# Altium schematic symbol library Compilation.SchLib: 307 symbols (part 1 of 4)
Pins are listed as number, name and electrical type; pins without a type are passive.

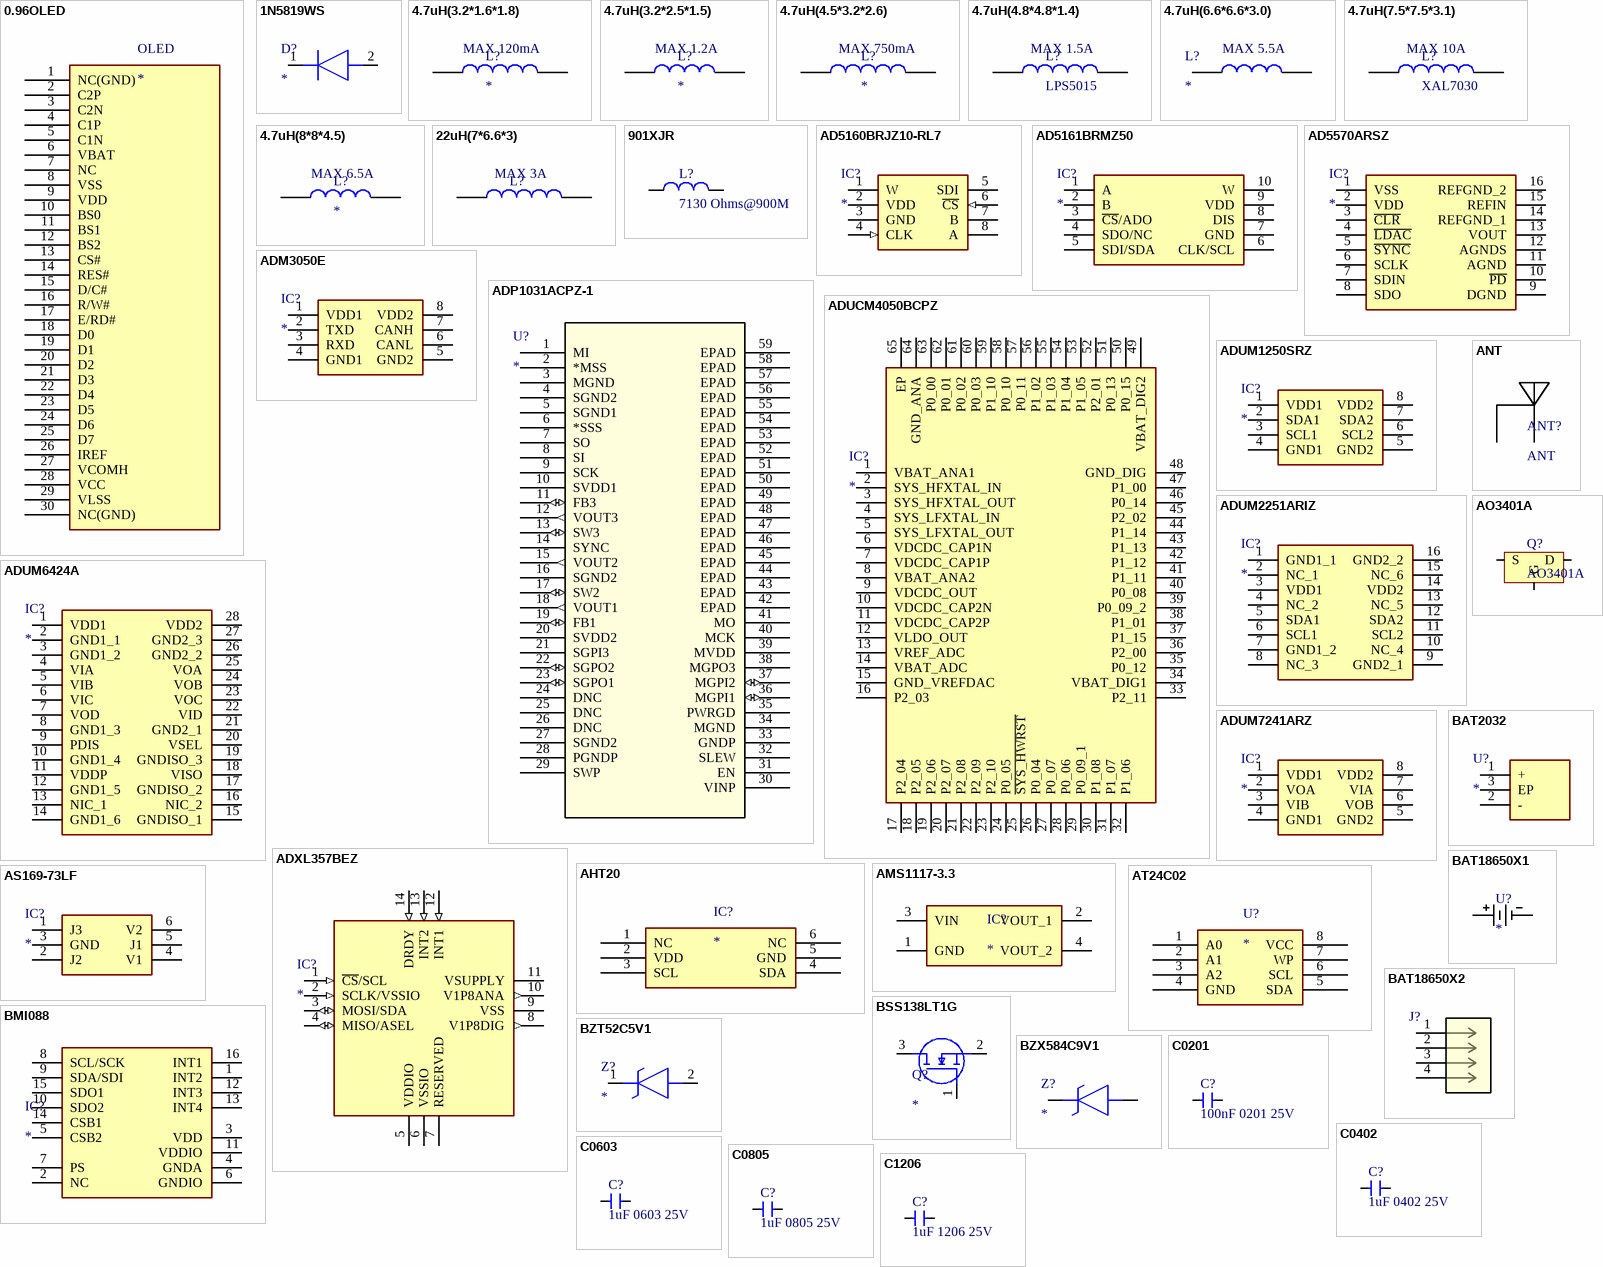
[diagram p0: symbols 0.96OLED to C1206]

## 0.96OLED
designator OLED
footprint 0.96OLED
pins: 1 NC(GND), 2 C2P, 3 C2N, 4 C1P, 5 C1N, 6 VBAT, 7 NC, 8 VSS, 9 VDD, 10 BS0, 11 BS1, 12 BS2, 13 CS#, 14 RES#, 15 D/C#, 16 R/W#, 17 E/RD#, 18 D0, 19 D1, 20 D2, 21 D3, 22 D4, 23 D5, 24 D6, 25 D7, 26 IREF, 27 VCOMH, 28 VCC, 29 VLSS, 30 NC(GND)

## 1N5819WS
designator D?
Diode; Manufacturer_Name: Toshiba; Manufacturer_Part_Number: CRH01; Datasheet Link: http://www.mouser.com/datasheet/2/408/CRH01_datasheet_en_20180404-1134686.pdf; Height: 1.08mm; Mouser Part Number: 757-CRH01; Mouser Price/Stock: https://www.mouser.co.uk/ProductDetail/Toshiba/CRH01?qs=6dm3P68XlMDjbLkiPZ97bg%3D%3D
footprint SOD-123
pins: 1 K, 2 A

## 4.7uH(3.2*1.6*1.8)
designator L?
Inductor
footprint 功率电感L(3.2*1.6*1.8)
pins: 1, 2
text: MAX 120mA

## 4.7uH(3.2*2.5*1.5)
designator L?
Inductor
footprint 功率电感L(3.2*2.5*1.5)
pins: 1, 2
text: MAX 1.2A

## 4.7uH(4.5*3.2*2.6)
designator L?
Inductor
footprint 功率电感L(4.5*3.2*2.6)
pins: 1, 2
text: MAX 750mA

## 4.7uH(4.8*4.8*1.4)
designator L?, comment LPS5015
Inductor
footprint LPS5015 (Low Profile Shielded Power Inductors)
pins: 1, 2
text: MAX 1.5A

## 4.7uH(6.6*6.6*3.0)
designator L?
Inductor; Manufacturer_Name: Panasonic; Manufacturer_Part_Number: ELL6SH4R7M; Datasheet Link: https://industrial.panasonic.com/cdbs/www-data/pdf/AGM0000/AGM0000CE9.pdf; Height: 3.3mm
footprint 功率电感L(6.6*6.6*3.0)
pins: 1, 2
text: MAX 5.5A

## 4.7uH(7.5*7.5*3.1)
designator L?, comment XAL7030
Inductor
footprint XAL7030 (High Current Shielded Power Inductors)
pins: 1, 2
text: MAX 10A

## 4.7uH(8*8*4.5)
designator L?
Inductor
footprint 功率电感L(8*8*4.5)
pins: 1, 2
text: MAX 6.5A

## 22uH(7*6.6*3)
designator L?
Inductor
footprint 功率电感L(7*6.6*3)
pins: 1, 2
text: MAX 3A

## 901XJR
designator L?, comment 7130 Ohms@900M
Inductor
footprint 0402DF (Ferrite Chip Inductors)
pins: 1, 2

## AD5160BRJZ10-RL7
designator IC?
Integrated Circuit; Manufacturer_Name: Analog Devices; Manufacturer_Part_Number: AD5160BRJZ10-RL7; Datasheet Link: http://www.analog.com/media/en/technical-documentation/data-sheets/AD5160.pdf; Height: 1.45mm; Mouser Part Number: 584-AD5160BRJZ10-R7; Mouser Price/Stock: https://www.mouser.co.uk/ProductDetail/Analog-Devices/AD5160BRJZ10-RL7?qs=NmRFExCfTkHhwD179eNY3Q%3D%3D; Arrow Part Number: AD5160BRJZ10-RL7; Arrow Price/Stock: https://www.arrow.com/en/products/ad5160brjz10-rl7/analog-devices?region=nac
footprint AD5160BRJZ10-RL7
pins: 1 W, 2 VDD (power), 3 GND (power), 4 CLK (in), 5 SDI, 6 ~{CS} (in), 7 B, 8 A

## AD5161BRMZ50
designator IC?
Integrated Circuit; Manufacturer_Name: Analog Devices; Manufacturer_Part_Number: AD5161BRMZ50; Datasheet Link: http://www.analog.com/media/en/technical-documentation/data-sheets/AD5161.pdf; Height: 1.1mm; Mouser Part Number: 584-AD5161BRMZ50; Mouser Price/Stock: https://www.mouser.co.uk/ProductDetail/Analog-Devices/AD5161BRMZ50?qs=NmRFExCfTkFqqhMssdVULQ%3D%3D; Arrow Part Number: AD5161BRMZ50; Arrow Price/Stock: https://www.arrow.com/en/products/ad5161brmz50/analog-devices
footprint AD5161BRMZ10
pins: 1 A, 2 B, 3 ~{CS}/ADO, 4 SDO/NC, 5 SDI/SDA, 6 CLK/SCL, 7 GND, 8 DIS, 9 VDD, 10 W

## AD5570ARSZ
designator IC?
Integrated Circuit; Manufacturer_Name: Analog Devices; Manufacturer_Part_Number: AD5570BRSZ; Datasheet Link: http://www.analog.com/media/en/technical-documentation/data-sheets/AD5570.pdf; Height: 2mm; Mouser Part Number: 584-AD5570BRSZ; Mouser Price/Stock: https://www.mouser.com/Search/Refine.aspx?Keyword=584-AD5570BRSZ; Arrow Part Number: AD5570BRSZ; Arrow Price/Stock: https://www.arrow.com/en/products/ad5570brsz/analog-devices
footprint AD5570ARSZ
pins: 1 VSS, 2 VDD, 3 ~{CLR}, 4 ~{LDAC}, 5 ~{SYNC}, 6 SCLK, 7 SDIN, 8 SDO, 9 DGND, 10 ~{PD}, 11 AGND, 12 AGNDS, 13 VOUT, 14 REFGND_1, 15 REFIN, 16 REFGND_2

## ADM3050E
designator IC?
Interface-CAN; Manufacturer_Name: Analog Devices; Manufacturer_Part_Number: ADM3050EBRIZ; Datasheet Link: https://www.mouser.com/datasheet/2/609/ADM3050E-EP-1542022.pdf; Height: 2.65mm; Mouser Part Number: 584-ADM3050EBRIZ; Mouser Price/Stock: https://www.mouser.co.uk/ProductDetail/Analog-Devices/ADM3050EBRIZ?qs=P1JMDcb91o7QWLbXtXYo%2Fw%3D%3D; Arrow Part Number: ADM3050EBRIZ; Arrow Price/Stock: https://www.arrow.com/en/products/adm3050ebriz/analog-devices?region=nac
footprint ADM3050E (CAN Transceiver)
pins: 1 VDD1, 2 TXD, 3 RXD, 4 GND1, 5 GND2, 6 CANL, 7 CANH, 8 VDD2

## ADP1031ACPZ-1
designator U?
Integrated Circuit; Mfr_Name: Analog Devices Inc; Manufacturer_Part_Number: ADP1031ACPZ-2-R7; Copyright: Copyright (C) 2022 Ultra Librarian. All rights reserved.; RefDes: RefDes; Type: DEV
footprint ADP1031ACPZ-1
pins: 1 MI, 2 *MSS, 3 MGND, 4 SGND2, 5 SGND1, 6 *SSS, 7 SO, 8 SI, 9 SCK, 10 SVDD1 (power), 11 FB3 (io), 12 VOUT3 (out), 13 SW3 (io), 14 SYNC, 15 VOUT2 (out), 16 SGND2, 17 SW2 (io), 18 VOUT1 (out), 19 FB1 (io), 20 SVDD2 (power), 21 SGPI3, 22 SGPO2 (io), 23 SGPO1 (io), 24 DNC, 25 DNC, 26 DNC, 27 SGND2, 28 PGNDP, 29 SWP, 30 VINP, 31 EN, 32 SLEW, 33 GNDP, 34 MGND, 35 PWRGD, 36 MGPI1 (io), 37 MGPI2 (io), 38 MGPO3, 39 MVDD (power), 40 MCK, 41 MO, 42 EPAD, 43 EPAD, 44 EPAD, 45 EPAD, 46 EPAD, 47 EPAD, 48 EPAD, 49 EPAD, 50 EPAD, 51 EPAD, 52 EPAD, 53 EPAD, 54 EPAD, 55 EPAD, 56 EPAD, 57 EPAD, 58 EPAD, 59 EPAD

## ADUCM4050BCPZ
designator IC?
Integrated Circuit; Manufacturer_Name: Analog Devices; Manufacturer_Part_Number: ADUCM4050BCPZ; Datasheet Link: https://www.analog.com/media/en/technical-documentation/data-sheets/ADuCM4050.pdf; Height: 0.8mm; Mouser Part Number: 584-ADUCM4050BCPZ; Mouser Price/Stock: https://www.mouser.co.uk/ProductDetail/Analog-Devices/ADUCM4050BCPZ?qs=w%2Fv1CP2dgqq8heZVgOrWIQ%3D%3D
footprint ADUCM4050BCPZ
pins: 1 VBAT_ANA1, 2 SYS_HFXTAL_IN, 3 SYS_HFXTAL_OUT, 4 SYS_LFXTAL_IN, 5 SYS_LFXTAL_OUT, 6 VDCDC_CAP1N, 7 VDCDC_CAP1P, 8 VBAT_ANA2, 9 VDCDC_OUT, 10 VDCDC_CAP2N, 11 VDCDC_CAP2P, 12 VLDO_OUT, 13 VREF_ADC, 14 VBAT_ADC, 15 GND_VREFDAC, 16 P2_03, 17 P2_04, 18 P2_05, 19 P2_06, 20 P2_07, 21 P2_08, 22 P2_09, 23 P2_10, 24 P0_05, 25 ~{SYS_HWRST}, 26 P0_04, 27 P0_07, 28 P0_06, 29 P0_09_1, 30 P1_08, 31 P1_07, 32 P1_06, 33 P2_11, 34 VBAT_DIG1, 35 P0_12, 36 P2_00, 37 P1_15, 38 P1_01, 39 P0_09_2, 40 P0_08, 41 P1_11, 42 P1_12, 43 P1_13, 44 P1_14, 45 P2_02, 46 P0_14, 47 P1_00, 48 GND_DIG, 49 VBAT_DIG2, 50 P0_15, 51 P0_13, 52 P2_01, 53 P1_05, 54 P1_04, 55 P1_03, 56 P1_02, 57 P0_11, 58 P0_10, 59 P1_10, 60 P0_03, 61 P0_02, 62 P0_01, 63 P0_00, 64 GND_ANA, 65 EP

## ADUM1250SRZ
designator IC?
Isolator-IIC; Manufacturer_Name: Analog Devices; Manufacturer_Part_Number: ADUM1250SRZ-RL7; Datasheet Link: http://componentsearchengine.com/Datasheets/1/ADUM1250SRZ-RL7.pdf; Height: 1.75mm; Mouser Part Number: 584-ADUM1250SRZ-R7; Mouser Price/Stock: https://www.mouser.co.uk/ProductDetail/Analog-Devices/ADUM1250SRZ-RL7?qs=WIvQP4zGangOSGljbKVG0A%3D%3D; Arrow Part Number: ADUM1250SRZ-RL7; Arrow Price/Stock: https://www.arrow.com/en/products/adum1250srz-rl7/maxim-integrated?region=nac
footprint SOIC-8
pins: 1 VDD1, 2 SDA1, 3 SCL1, 4 GND1, 5 GND2, 6 SCL2, 7 SDA2, 8 VDD2

## ADUM2251ARIZ
designator IC?
Isolator-IIC; Manufacturer_Name: Analog Devices; Manufacturer_Part_Number: ADUM2251ARIZ; Datasheet Link: https://www.analog.com/media/en/technical-documentation/data-sheets/ADuM2250_ADuM2251.pdf; Height: 2.64mm; Mouser Part Number: 584-ADUM2251ARIZ; Mouser Price/Stock: https://www.mouser.co.uk/ProductDetail/Analog-Devices/ADUM2251ARIZ/?qs=WIvQP4zGaninyQ3UoGTqQA%3D%3D; Arrow Part Number: ADUM2251ARIZ; Arrow Price/Stock: https://www.arrow.com/en/products/adum2251ariz/analog-devices
footprint ADUM2251ARIZ
pins: 1 GND1_1, 2 NC_1, 3 VDD1, 4 NC_2, 5 SDA1, 6 SCL1, 7 GND1_2, 8 NC_3, 9 GND2_1, 10 NC_4, 11 SCL2, 12 SDA2, 13 NC_5, 14 VDD2, 15 NC_6, 16 GND2_2

## ADUM6424A
designator IC?
Isolator-Digital
footprint ADUM6424A
pins: 1 VDD1, 2 GND1_1, 3 GND1_2, 4 VIA, 5 VIB, 6 VIC, 7 VOD, 8 GND1_3, 9 PDIS, 10 GND1_4, 11 VDDP, 12 GND1_5, 13 NIC_1, 14 GND1_6, 15 GNDISO_1, 16 NIC_2, 17 GNDISO_2, 18 VISO, 19 GNDISO_3, 20 VSEL, 21 GND2_1, 22 VID, 23 VOC, 24 VOB, 25 VOA, 26 GND2_2, 27 GND2_3, 28 VDD2

## ADUM7241ARZ
designator IC?
Isolator-Digital; Manufacturer_Name: Analog Devices; Manufacturer_Part_Number: ADUM7241ARZ; Datasheet Link: http://www.analog.com/media/en/technical-documentation/data-sheets/ADuM7240_7241.pdf; Height: 1.75mm; Mouser Part Number: 584-ADUM7241ARZ; Mouser Price/Stock: https://www.mouser.co.uk/ProductDetail/Analog-Devices/ADUM7241ARZ?qs=WIvQP4zGani3j2jCzKCQkw%3D%3D; Arrow Part Number: ADUM7241ARZ; Arrow Price/Stock: https://www.arrow.com/en/products/adum7241arz/analog-devices
footprint SOIC-8
pins: 1 VDD1, 2 VOA, 3 VIB, 4 GND1, 5 GND2, 6 VOB, 7 VIA, 8 VDD2

## ADXL357BEZ
designator IC?
MEMS; Manufacturer_Name: Analog Devices; Manufacturer_Part_Number: ADXL357BEZ; Datasheet Link: https://componentsearchengine.com/Datasheets/2/ADXL357BEZ.pdf; Mouser Part Number: 584-ADXL357BEZ; Mouser Price/Stock: https://www.mouser.co.uk/ProductDetail/Analog-Devices/ADXL357BEZ?qs=JxTdDJPFbyK%252BcMwBtm6iZg%3D%3D; Arrow Part Number: ADXL357BEZ; Arrow Price/Stock: https://www.arrow.com/en/products/adxl357bez/analog-devices?region=nac
footprint ADXL357BEZ
pins: 1 ~{CS}/SCL (in), 2 SCLK/VSSIO (in), 3 MOSI/SDA (io), 4 MISO/ASEL (io), 5 VDDIO (power), 6 VSSIO (power), 7 RESERVED (power), 8 V1P8DIG (out), 9 VSS (power), 10 V1P8ANA (out), 11 VSUPPLY (power), 12 INT1 (in), 13 INT2 (in), 14 DRDY (in)

## AHT20
designator IC?
MEMS
footprint AHT20
pins: 1 NC, 2 VDD, 3 SCL, 4 SDA, 5 GND, 6 NC

## AMS1117-3.3
designator IC?
Power Manager; Manufacturer_Name: Advanced Monolithic Systems; Manufacturer_Part_Number: AMS1117-3.3; Datasheet Link: http://www.advanced-monolithic.com/pdf/ds1117.pdf; Height: 1.8mm
footprint AMS1117-3.3
pins: 1 GND, 2 VOUT_1, 3 VIN, 4 VOUT_2

## ANT
designator ANT?
PCB板载天线; 版权归属: 源创客; BOM名称: PCB板载天线; 学习资源: www.ooocke.com
footprint ANT2.4G-IFA (IFA for WIFI/Bluetooth)
pins: 1, 2

## AO3401A
designator Q?
MOSFET P-ch
footprint SOT23-3
pins: 1 G, 2 S, 3 D

## AS169-73LF
designator IC?
RF Switch; Manufacturer_Name: Texas Instruments; Manufacturer_Part_Number: LP5907MFX-3.3/NOPB; Datasheet Link: https://datasheet.datasheetarchive.com/originals/distributors/Datasheets-SFU2/DSASFU100037200.pdf; Height: 1.45mm; Mouser Part Number: 595-LP5907MFX-3.3NPB; Mouser Price/Stock: https://www.mouser.co.uk/ProductDetail/Texas-Instruments/LP5907MFX-33-NOPB?qs=biyDIajrTn6NhrJCoL%2FdSQ%3D%3D; Arrow Part Number: LP5907MFX-3.3/NOPB; Arrow Price/Stock: https://www.arrow.com/en/products/lp5907mfx-3.3nopb/texas-instruments?region=nac
footprint SOT23-6
pins: 1 J3, 2 J2, 3 GND, 4 V1, 5 J1, 6 V2

## AT24C02
designator U?
Memory
footprint SOIC-8
pins: 1 A0, 2 A1, 3 A2, 4 GND, 5 SDA, 6 SCL, 7 WP, 8 VCC

## BAT2032
designator U?
Connector; Manufacturer_Name: MPD (Memory Protection Devices); Manufacturer_Part_Number: BU2032SM-JJ-GTR; Datasheet Link: https://datasheet.datasheetarchive.com/originals/dk/DKDS-14/278680.pdf; Height: 5.8mm
footprint BAT2032
pins: 1 +, 2 -, 3 EP

## BAT18650X1
designator U?
Battery
footprint BAT18650X1
pins: 1, 2

## BAT18650X2
designator J?
Battery; Mfr_Name: Keystone Electronics; Manufacturer_Part_Number: 1048; Copyright: Copyright (C) 2023 Ultra Librarian. All rights reserved.; RefDes: RefDes; Type: DEV
footprint BAT18650X2
pins: 1, 2, 3, 4

## BMI088
designator IC?
MEMS; Manufacturer_Name: Bosch Sensortec; Manufacturer_Part_Number: BMI088; Datasheet Link: https://datasheet.datasheetarchive.com/originals/distributors/Datasheets_SAMA/994c3bf88e91a9e9fead6a819d348e4d.pdf; Height: 1.45mm; Mouser Part Number: 262-BMI088; Mouser Price/Stock: https://www.mouser.co.uk/ProductDetail/Bosch-Sensortec/BMI088?qs=f9yNj16SXrIMFspTV6RB6Q%3D%3D; Arrow Part Number: BMI088; Arrow Price/Stock: https://www.arrow.com/en/products/bmi088/bosch
footprint BMI088
pins: 1 INT2, 2 NC, 3 VDD, 4 GNDA, 5 CSB2, 6 GNDIO, 7 PS, 8 SCL/SCK, 9 SDA/SDI, 10 SDO2, 11 VDDIO, 12 INT3, 13 INT4, 14 CSB1, 15 SDO1, 16 INT1

## BSS138LT1G
designator Q?
MOSFET(N-Channel); Manufacturer_Name: ON Semiconductor; Manufacturer_Part_Number: BSS138LT1G; Datasheet Link: http://www.onsemi.com/pub/Collateral/BSS138LT1-D.PDF; Height: 1.11mm; Mouser Part Number: 863-BSS138LT1G; Mouser Price/Stock: https://www.mouser.co.uk/ProductDetail/onsemi/BSS138LT1G?qs=vNc2DXHODiKPZ2y3rQhTYQ%3D%3D; Arrow Part Number: BSS138LT1G; Arrow Price/Stock: https://www.arrow.com/en/products/bss138lt1g/on-semiconductor?region=nac
footprint BSS138LT1G
pins: 1 G, 2 S, 3 D

## BZT52C5V1
designator Z?
Diode; Manufacturer_Name: Nexperia; Manufacturer_Part_Number: BZT52-C5V6J; Datasheet Link: https://assets.nexperia.com/documents/data-sheet/BZT52_SER.pdf; Height: 1.3mm; Mouser Part Number: N/A; Mouser Price/Stock: https://www.mouser.com/Search/Refine.aspx?Keyword=N%2FA; Arrow Part Number: BZT52-C5V6J; Arrow Price/Stock: https://www.arrow.com/en/products/bzt52-c5v6j/nexperia?region=nac
footprint BZT52C5V1
pins: 1 K, 2 A

## BZX584C9V1
designator Z?
Diode; Manufacturer_Name: Vishay; Manufacturer_Part_Number: BZX584C9V1-G3-08; Datasheet Link: https://www.mouser.co.uk/datasheet/2/427/bzx584c-series-1767863.pdf; Height: 0.75mm; Mouser Part Number: 78-BZX584C9V1-G3-08; Mouser Price/Stock: https://www.mouser.co.uk/ProductDetail/Vishay-Semiconductors/BZX584C9V1-G3-08?qs=OTrKUuiFdkYjt7ytUwYykQ%3D%3D
footprint BZX584C9V1
pins: 1, 2

## C0201
designator C?, comment 100nF 0201 25V
Capacitor
footprint C0201 (英制0201封装 电容)
pins: 1, 2

## C0402
designator C?, comment 1uF 0402 25V
Capacitor
footprint C0402
pins: 1, 2

## C0603
designator C?, comment 1uF 0603 25V
Capacitor; Manufacturer_Name: Walsin Technology Corporation; Manufacturer_Part_Number: 0603N470J500CT; Datasheet Link: https://datasheet.datasheetarchive.com/originals/distributors/DKDS41/DSANUWW0027552.pdf; Height: 0.87mm; Mouser Part Number: 791-0603N470J500CT; Mouser Price/Stock: https://www.mouser.co.uk/ProductDetail/Walsin/0603N470J500CT?qs=ZrPdAQfJ6DOWJe9N0xQVbw%3D%3D
footprint C0603
pins: 1, 2

## C0805
designator C?, comment 1uF 0805 25V
Capacitor; Manufacturer_Name: Walsin Technology Corporation; Manufacturer_Part_Number: 0805B104K500CT; Datasheet Link: https://datasheet.datasheetarchive.com/originals/distributors/DKDS41/DSANUWW0027552.pdf; Height: 0.9mm; Mouser Part Number: 791-0805B104K500CT; Mouser Price/Stock: https://www.mouser.co.uk/ProductDetail/Walsin/0805B104K500CT?qs=fIkAfuXiAQIRyZemBo9ukA%3D%3D; Arrow Part Number: 0805B104K500CT; Arrow Price/Stock: https://www.arrow.com/en/products/0805b104k500ct/walsin-technology
footprint C0805
pins: 1, 2

## C1206
designator C?, comment 1uF 1206 25V
Capacitor; Manufacturer_Name: Kemet; Manufacturer_Part_Number: C1206C124KARACAUTO; Datasheet Link: https://mouser.componentsearchengine.com/Datasheets/1/C1206C124KARACAUTO.pdf; Height: 1.4mm; Mouser Part Number: 80-C1206C124KARAUTO; Mouser Price/Stock: https://www.mouser.co.uk/ProductDetail/KEMET/C1206C124KARACAUTO?qs=wUXugUrL1qz5WicbpL7E5w%3D%3D; Arrow Part Number: C1206C124KARACAUTO; Arrow Price/Stock: https://www.arrow.com/en/products/c1206c124karacauto/kemet-corporation
footprint C1206
pins: 1, 2

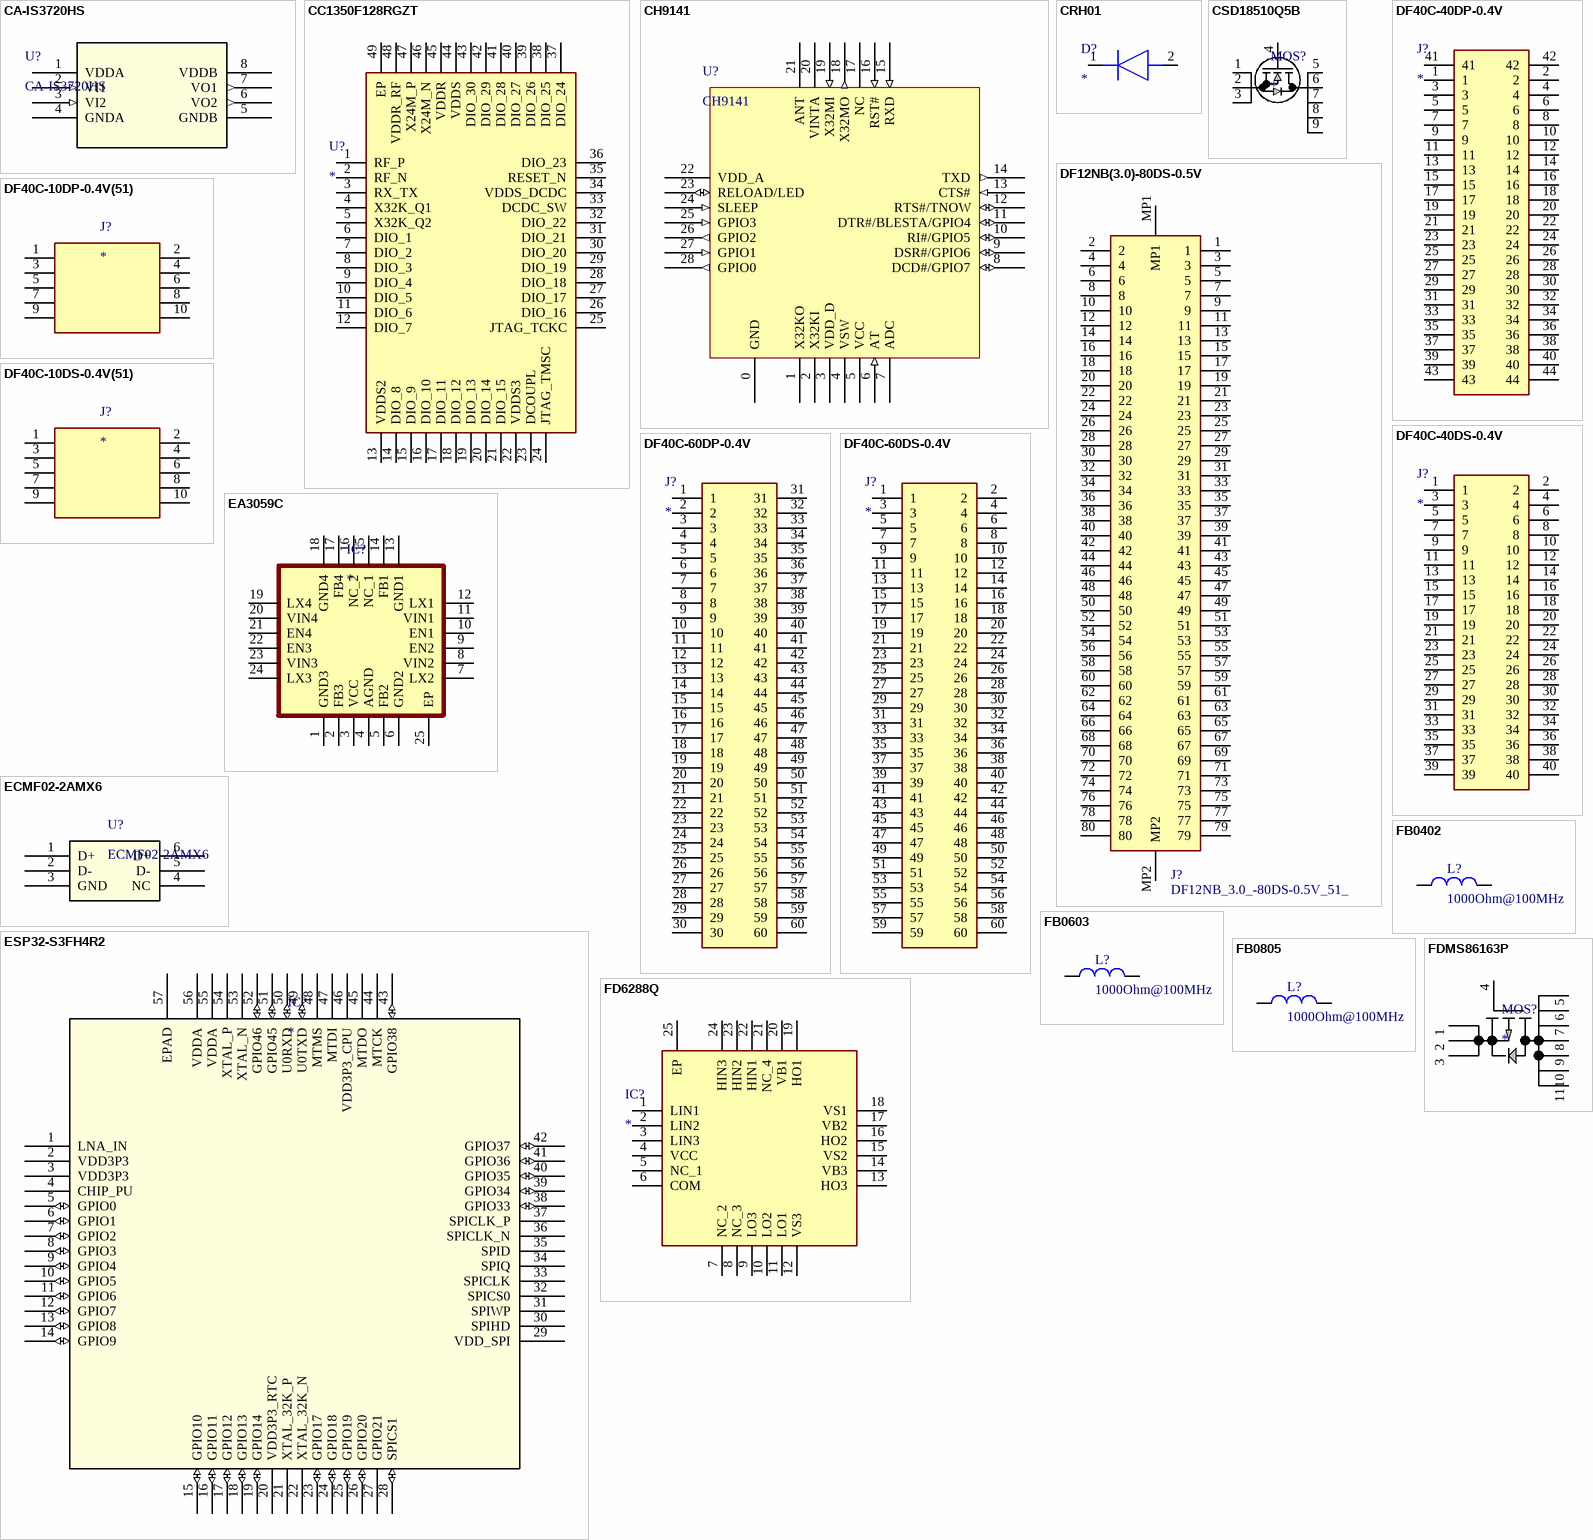
[diagram p1: symbols CA-IS3720HS to FDMS86163P]

## CA-IS3720HS
designator U?
Isolator; Mfr_Name: Chipanalog; Type: DEV; Copyright: Copyright (C) 2023 Ultra Librarian. All rights reserved.; Manufacturer_Part_Number: CA-IS3720HS; RefDes: RefDes
footprint SOIC-8
pins: 1 VDDA (power), 2 VI1 (in), 3 VI2 (in), 4 GNDA (power), 5 GNDB (power), 6 VO2 (out), 7 VO1 (out), 8 VDDB (power)

## CC1350F128RGZT
designator U?
MCU; Manufacturer_Name: Texas Instruments; Manufacturer_Part_Number: CC1350F128RGZT; Datasheet Link: http://www.ti.com/lit/gpn/CC1350; Height: 1mm; Mouser Part Number: 595-CC1350F128RGZT; Mouser Price/Stock: https://www.mouser.co.uk/ProductDetail/Texas-Instruments/CC1350F128RGZT?qs=SMCV84mnLhmXB2ndd3%2FQ6w%3D%3D; Arrow Part Number: CC1350F128RGZT; Arrow Price/Stock: https://www.arrow.com/en/products/cc1350f128rgzt/texas-instruments?region=nac
footprint UFQFPN48
pins: 1 RF_P, 2 RF_N, 3 RX_TX, 4 X32K_Q1, 5 X32K_Q2, 6 DIO_1, 7 DIO_2, 8 DIO_3, 9 DIO_4, 10 DIO_5, 11 DIO_6, 12 DIO_7, 13 VDDS2, 14 DIO_8, 15 DIO_9, 16 DIO_10, 17 DIO_11, 18 DIO_12, 19 DIO_13, 20 DIO_14, 21 DIO_15, 22 VDDS3, 23 DCOUPL, 24 JTAG_TMSC, 25 JTAG_TCKC, 26 DIO_16, 27 DIO_17, 28 DIO_18, 29 DIO_19, 30 DIO_20, 31 DIO_21, 32 DIO_22, 33 DCDC_SW, 34 VDDS_DCDC, 35 RESET_N, 36 DIO_23, 37 DIO_24, 38 DIO_25, 39 DIO_26, 40 DIO_27, 41 DIO_28, 42 DIO_29, 43 DIO_30, 44 VDDS, 45 VDDR, 46 X24M_N, 47 X24M_P, 48 VDDR_RF, 49 EP

## CH9141
designator U?
Bluetooth-LowEnergy & UART Mutual Transport
footprint QFN28-4X4
pins: 0 GND (power), 1 X32KO, 2 X32KI, 3 VDD_D (power), 4 VSW (power), 5 VCC (power), 6 AT (in), 7 ADC, 8 DCD#/GPIO7 (io), 9 DSR#/GPIO6 (io), 10 RI#/GPIO5 (io), 11 DTR#/BLESTA/GPIO4 (io), 12 RTS#/TNOW (io), 13 CTS# (in), 14 TXD (out), 15 RXD (in), 16 RST# (in), 17 NC (hiz), 18 X32MO (out), 19 X32MI (in), 20 VINTA (power), 21 ANT, 22 VDD_A (power), 23 RELOAD/LED (io), 24 SLEEP (in), 25 GPIO3 (in), 26 GPIO2 (out), 27 GPIO1 (in), 28 GPIO0 (out)

## CRH01
designator D?
Diode; Manufacturer_Name: Toshiba; Manufacturer_Part_Number: CRH01; Datasheet Link: http://www.mouser.com/datasheet/2/408/CRH01_datasheet_en_20180404-1134686.pdf; Height: 1.08mm; Mouser Part Number: 757-CRH01; Mouser Price/Stock: https://www.mouser.co.uk/ProductDetail/Toshiba/CRH01?qs=6dm3P68XlMDjbLkiPZ97bg%3D%3D
footprint CRH01
footprint CRH01
pins: 1 K, 2 A

## CSD18510Q5B
designator MOS?
MOSFET(N-Channel); Manufacturer_Name: Texas Instruments; Manufacturer_Part_Number: CSD18510Q5BT; Datasheet Link: http://www.ti.com/lit/ds/symlink/csd18510q5b.pdf; Mouser Part Number: 595-CSD18510Q5BT; Mouser Price/Stock: https://www.mouser.co.uk/ProductDetail/Texas-Instruments/CSD18510Q5BT?qs=u4fy%2FsgLU9PeKSF3sD%2F9mw%3D%3D; Arrow Part Number: CSD18510Q5BT; Arrow Price/Stock: https://www.arrow.com/en/products/csd18510q5bt/texas-instruments?region=nac
footprint CSD18510Q5B (MOSFET N-ch)
pins: 1 S, 2 S, 3 S, 4 G, 5 D, 6 D, 7 D, 8 D, 9 D

## DF12NB(3.0)-80DS-0.5V
designator J?, comment DF12NB_3.0_-80DS-0.5V_51_
Connector; Manufacturer_Name: Hirose; Manufacturer_Part_Number: DF12NB(3.0)-80DS-0.5V(51); Geometry.Height: 2.2mm; Mouser Part Number: 798-DF12NB3080DS0551; Mouser Price/Stock: https://www.mouser.co.uk/ProductDetail/Hirose-Connector/DF12NB3.0-80DS-0.5V51?qs=DPoM0jnrROXDCz7SysT8cw%3D%3D; Arrow Part Number: *; Arrow Price/Stock: *; Datasheet Link: https://www.mouser.de/datasheet/2/185/ed_DF12N_20200826-1915117.pdf
footprint DF12NB(3.0)-80DS-0.5V
pins: 1, 2, 3, 4, 5, 6, 7, 8, 9, 10, 11, 12, 13, 14, 15, 16, 17, 18, 19, 20, 21, 22, 23, 24, 25, 26, 27, 28, 29, 30, 31, 32, 33, 34, 35, 36, 37, 38, 39, 40, 41, 42, 43, 44, 45, 46, 47, 48, 49, 50, 51, 52, 53, 54, 55, 56, 57, 58, 59, 60, 61, 62, 63, 64, 65, 66, 67, 68, 69, 70, 71, 72, 73, 74, 75, 76, 77, 78, 79, 80, MP1, MP2

## DF40C-10DP-0.4V(51)
designator J?
Connector
footprint DF40C-10DP-0.4V(51) (Footprint not found)
pins: 1, 2, 3, 4, 5, 6, 7, 8, 9, 10

## DF40C-10DS-0.4V(51)
designator J?
Connector
footprint DF40C-10DS-0.4V(51) (Footprint not found)
pins: 1, 2, 3, 4, 5, 6, 7, 8, 9, 10

## DF40C-40DP-0.4V
designator J?
Connector; Manufacturer_Name: Hirose; Manufacturer_Part_Number: DF40C-40DP-0.4V(51); Datasheet Link: https://datasheet.datasheetarchive.com/originals/distributors/SFDatasheet-7/sf-000141247.pdf; Height: 1mm; Mouser Part Number: 798-DF40C40DP0.4V51; Mouser Price/Stock: https://www.mouser.co.uk/ProductDetail/Hirose-Connector/DF40C-40DP-0.4V51?qs=eDUdFcBPps3ody6AX5VRNA%3D%3D
footprint DF40C-40DP-0.4V
pins: 1, 2, 3, 4, 5, 6, 7, 8, 9, 10, 11, 12, 13, 14, 15, 16, 17, 18, 19, 20, 21, 22, 23, 24, 25, 26, 27, 28, 29, 30, 31, 32, 33, 34, 35, 36, 37, 38, 39, 40, 41, 42, 43, 44

## DF40C-40DS-0.4V
designator J?
Connector; Manufacturer_Name: Hirose; Manufacturer_Part_Number: DF40C(2.0)-40DS-0.4V(51); Datasheet Link: https://datasheet.datasheetarchive.com/originals/distributors/SFDatasheet-7/sf-000141247.pdf; Height: 2.1mm; Mouser Part Number: 798-DF40C2040DS04V51; Mouser Price/Stock: https://www.mouser.co.uk/ProductDetail/Hirose-Connector/DF40C2.0-40DS-0.4V51?qs=tTj%252BmQ3KZwZ5XvyhQkwYtw%3D%3D; Arrow Part Number: DF40C(2.0)-40DS-0.4V(51); Arrow Price/Stock: https://www.arrow.com/en/products/df40c-2.0-40ds-0.4v-51/hirose-electric
footprint DF40C-40DS-0.4V
pins: 1, 2, 3, 4, 5, 6, 7, 8, 9, 10, 11, 12, 13, 14, 15, 16, 17, 18, 19, 20, 21, 22, 23, 24, 25, 26, 27, 28, 29, 30, 31, 32, 33, 34, 35, 36, 37, 38, 39, 40

## DF40C-60DP-0.4V
designator J?
Connector; Manufacturer_Name: Hirose; Manufacturer_Part_Number: DF40C-60DP-0.4V(51); Datasheet Link: https://datasheet.datasheetarchive.com/originals/distributors/Datasheets-DGA17/1059795.pdf; Mouser Part Number: 798-DF40C60DP0.4V51; Mouser Price/Stock: https://www.mouser.co.uk/ProductDetail/Hirose-Connector/DF40C-60DP-0.4V51?qs=eDUdFcBPps0%252B%252BrqDQtiLyw%3D%3D; Arrow Part Number: DF40C-60DP-0.4V(51); Arrow Price/Stock: https://www.arrow.com/en/products/df40c-60dp-0.4v-51/hirose-electric?region=nac
footprint DF40C-60DP-0.4V
pins: 1, 2, 3, 4, 5, 6, 7, 8, 9, 10, 11, 12, 13, 14, 15, 16, 17, 18, 19, 20, 21, 22, 23, 24, 25, 26, 27, 28, 29, 30, 31, 32, 33, 34, 35, 36, 37, 38, 39, 40, 41, 42, 43, 44, 45, 46, 47, 48, 49, 50, 51, 52, 53, 54, 55, 56, 57, 58, 59, 60

## DF40C-60DS-0.4V
designator J?
Connector; Manufacturer_Name: Hirose; Manufacturer_Part_Number: DF40C-60DS-0.4V(51); Datasheet Link: https://www.mouser.com/datasheet/2/185/DF40_catalog-939157.pdf; Height: 1.6mm; Mouser Part Number: 798-DF40C60DS0.4V51; Mouser Price/Stock: https://www.mouser.co.uk/ProductDetail/Hirose-Connector/DF40C-60DS-0.4V51?qs=eDUdFcBPps2B0AxWfy4Tzg%3D%3D; Arrow Part Number: DF40C-60DS-0.4V(51); Arrow Price/Stock: https://www.arrow.com/en/products/df40c-60ds-0.4v-51/hirose-electric?region=nac
footprint DF40C-60DS-0.4V
pins: 1, 2, 3, 4, 5, 6, 7, 8, 9, 10, 11, 12, 13, 14, 15, 16, 17, 18, 19, 20, 21, 22, 23, 24, 25, 26, 27, 28, 29, 30, 31, 32, 33, 34, 35, 36, 37, 38, 39, 40, 41, 42, 43, 44, 45, 46, 47, 48, 49, 50, 51, 52, 53, 54, 55, 56, 57, 58, 59, 60

## EA3059C
designator IC?
Power Manager; Manufacturer_Name: Ever Analog; Manufacturer_Part_Number: EA3059QDR; Datasheet Link: https://datasheet.lcsc.com/lcsc/1811151429_Everanalog-IC-design-EA3059_C111586.pdf; Height: 1mm
footprint EA3059C
pins: 1 GND3, 2 FB3, 3 VCC, 4 AGND, 5 FB2, 6 GND2, 7 LX2, 8 VIN2, 9 EN2, 10 EN1, 11 VIN1, 12 LX1, 13 GND1, 14 FB1, 15 NC_1, 16 NC_2, 17 FB4, 18 GND4, 19 LX4, 20 VIN4, 21 EN4, 22 EN3, 23 VIN3, 24 LX3, 25 EP

## ECMF02-2AMX6
designator U?
No Description Available; Mfr_Name: STMicroelectronics; Copyright: Copyright (C) 2023 Ultra Librarian. All rights reserved.; Manufacturer_Part_Number: ECMF02-2AMX6; RefDes: RefDes; Type: DEV
footprint QFN3x2-6L
pins: 1 D+, 2 D-, 3 GND (power), 4 NC, 5 D-, 6 D+

## ESP32-S3FH4R2
designator IC?
MCU; Mfr_Name: Espressif Systems; RefDes: RefDes; Type: Type
footprint QFN56-7X7
pins: 1 LNA_IN, 2 VDD3P3 (power), 3 VDD3P3 (power), 4 CHIP_PU (power), 5 GPIO0 (io), 6 GPIO1 (io), 7 GPIO2 (io), 8 GPIO3 (io), 9 GPIO4 (io), 10 GPIO5 (io), 11 GPIO6 (io), 12 GPIO7 (io), 13 GPIO8 (io), 14 GPIO9 (io), 15 GPIO10 (io), 16 GPIO11 (io), 17 GPIO12 (io), 18 GPIO13 (io), 19 GPIO14 (io), 20 VDD3P3_RTC (power), 21 XTAL_32K_P, 22 XTAL_32K_N, 23 GPIO17 (io), 24 GPIO18 (io), 25 GPIO19 (io), 26 GPIO20 (io), 27 GPIO21 (power), 28 SPICS1 (io), 29 VDD_SPI, 30 SPIHD (power), 31 SPIWP, 32 SPICS0, 33 SPICLK, 34 SPIQ, 35 SPID, 36 SPICLK_N, 37 SPICLK_P, 38 GPIO33 (io), 39 GPIO34 (io), 40 GPIO35 (io), 41 GPIO36 (io), 42 GPIO37 (io), 43 GPIO38 (io), 44 MTCK, 45 MTDO (power), 46 VDD3P3_CPU, 47 MTDI, 48 MTMS, 49 U0TXD (io), 50 U0RXD (io), 51 GPIO45 (io), 52 GPIO46 (io), 53 XTAL_N, 54 XTAL_P (power), 55 VDDA, 56 VDDA, 57 EPAD

## FB0402
designator L?, comment 1000Ohm@100MHz
Inductor
footprint FB0402
pins: 1, 2

## FB0603
designator L?, comment 1000Ohm@100MHz
Inductor
footprint FB0603
pins: 1, 2

## FB0805
designator L?, comment 1000Ohm@100MHz
Inductor
footprint FB0805
pins: 1, 2

## FD6288Q
designator IC?
BLDC Controller; Manufacturer_Name: Fortior Tech; Manufacturer_Part_Number: FD6288Q; Datasheet Link: https://datasheet.lcsc.com/szlcsc/1811131655_Fortior-Tech-FD6288Q_C328453.pdf; Height: 0.9mm
footprint FD6228Q
pins: 1 LIN1, 2 LIN2, 3 LIN3, 4 VCC, 5 NC_1, 6 COM, 7 NC_2, 8 NC_3, 9 LO3, 10 LO2, 11 LO1, 12 VS3, 13 HO3, 14 VB3, 15 VS2, 16 HO2, 17 VB2, 18 VS1, 19 HO1, 20 VB1, 21 NC_4, 22 HIN1, 23 HIN2, 24 HIN3, 25 EP

## FDMS86163P
designator MOS?
MOSFET(P-Channel); Manufacturer_Name: ON Semiconductor; Manufacturer_Part_Number: FDMS86252; Datasheet Link: https://www.onsemi.com/pdf/datasheet/fdms86252-d.pdf; Height: 1.1mm; Mouser Part Number: 512-FDMS86252; Mouser Price/Stock: https://www.mouser.com/Search/Refine.aspx?Keyword=512-FDMS86252; Arrow Part Number: FDMS86252; Arrow Price/Stock: https://www.arrow.com/en/products/fdms86252/on-semiconductor
footprint FDMS86163P (MOSFET P-ch)
pins: 1, 2, 3, 4, 5 D, 6 D, 7 D, 8 D, 9 D, 10 D, 11 D

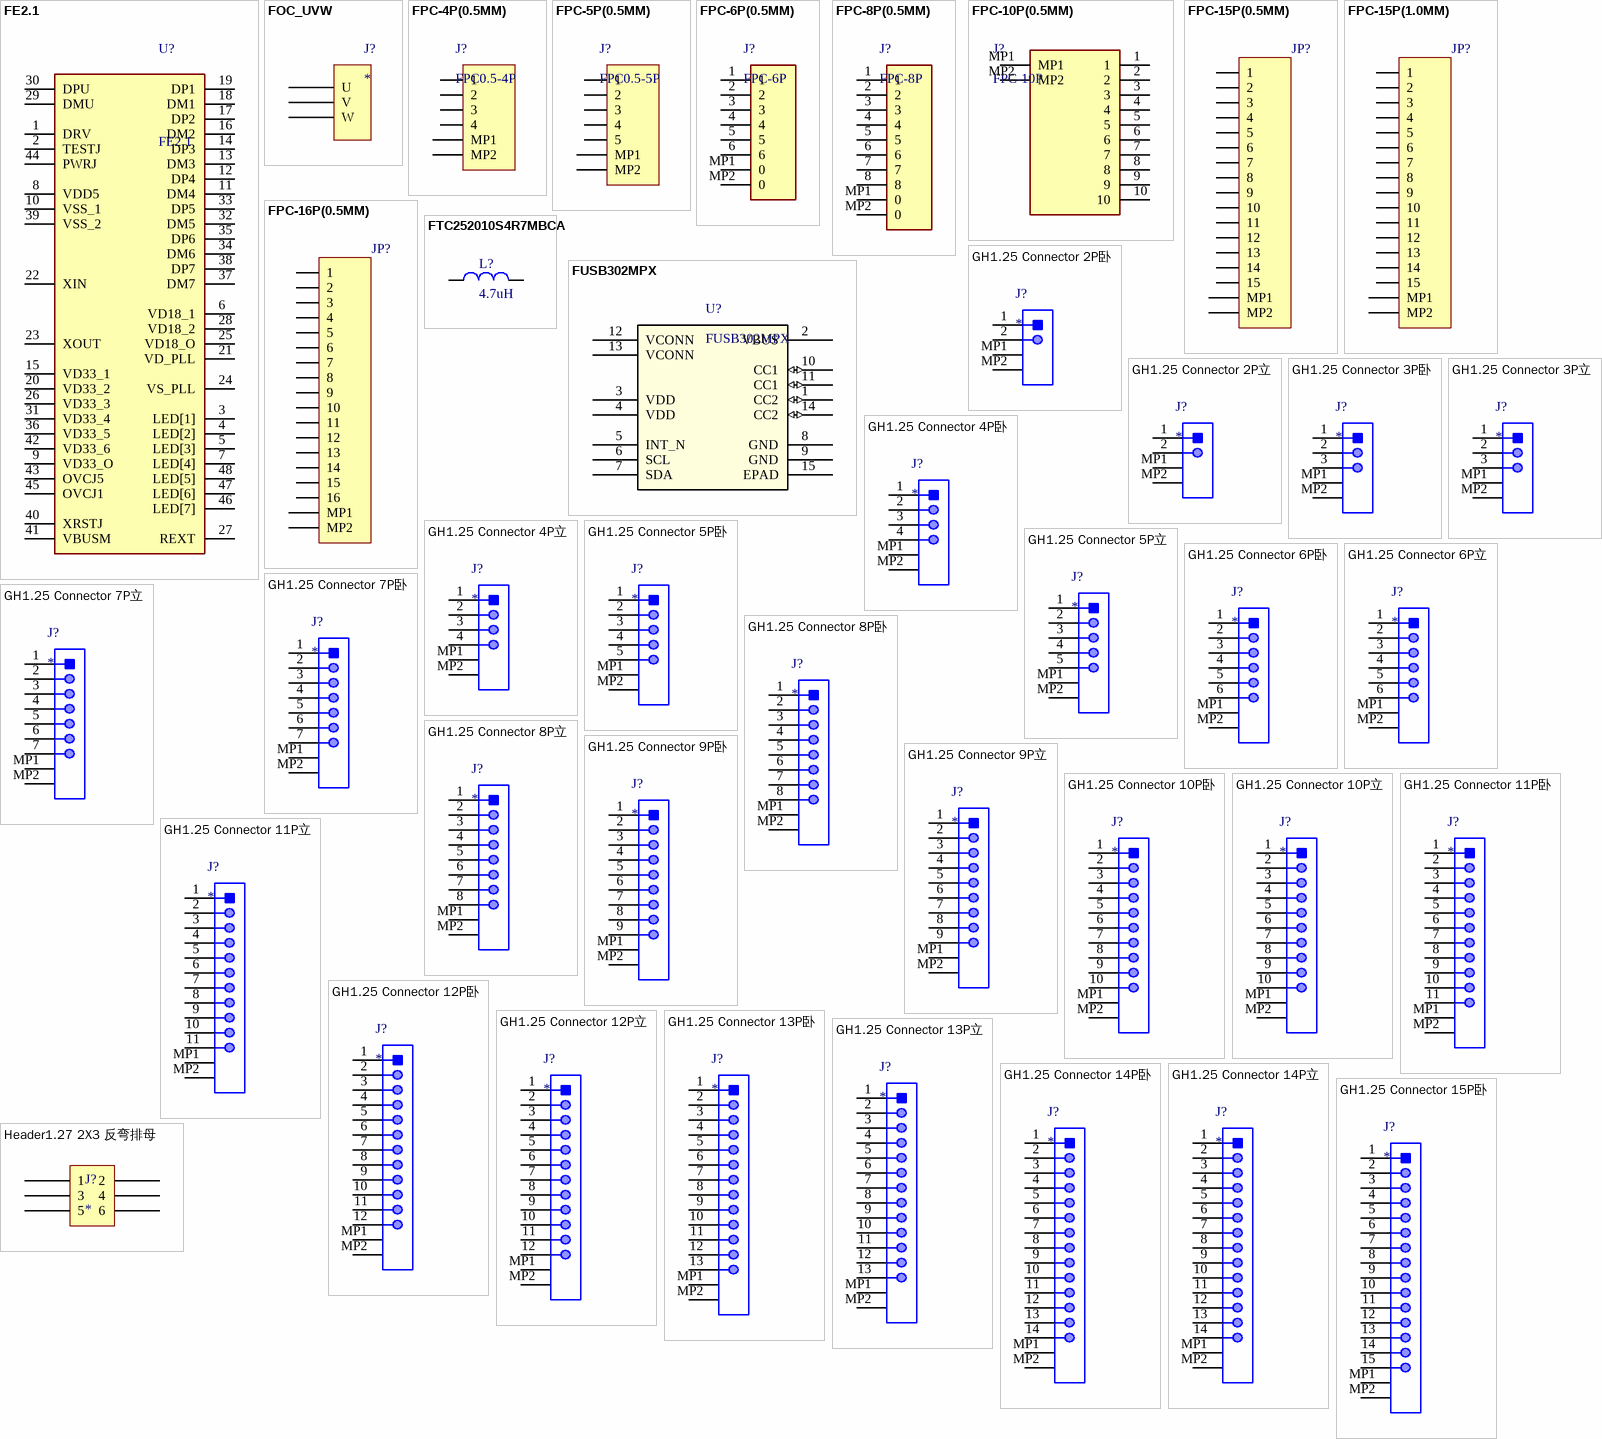
[diagram p2: symbols FE2.1 to Header1.27 2X3 反弯排母]

## FE2.1
designator U?
USB 2.0 HIGH SPEED 7-PORT HUB CONTROLLER; Manufacturer_Name: Terminus Technology; Manufacturer_Part_Number: FE2.1_QFP; Geometry.Height: 1.6mm; Mouser Part Number: *; Mouser Price/Stock: *; Arrow Part Number: *; Arrow Price/Stock: *; Datasheet Link: *
footprint LQFP48
pins: 1 DRV, 2 TESTJ, 3 LED[1], 4 LED[2], 5 LED[3], 6 VD18_1, 7 LED[4], 8 VDD5, 9 VD33_O, 10 VSS_1, 11 DM4, 12 DP4, 13 DM3, 14 DP3, 15 VD33_1, 16 DM2, 17 DP2, 18 DM1, 19 DP1, 20 VD33_2, 21 VD_PLL, 22 XIN, 23 XOUT, 24 VS_PLL, 25 VD18_O, 26 VD33_3, 27 REXT, 28 VD18_2, 29 DMU, 30 DPU, 31 VD33_4, 32 DM5, 33 DP5, 34 DM6, 35 DP6, 36 VD33_5, 37 DM7, 38 DP7, 39 VSS_2, 40 XRSTJ, 41 VBUSM, 42 VD33_6, 43 OVCJ5, 44 PWRJ, 45 OVCJ1, 46 LED[7], 47 LED[6], 48 LED[5]

## FOC_UVW
designator J?
footprint FOC_UVW
pins: U, V, W

## FPC-4P(0.5MM)
designator J?, comment FPC0.5-4P
Connector; Manufacturer_Name: TE Connectivity; Manufacturer_Part_Number: 1-1734592-0; Datasheet Link: https://www.te.com/commerce/DocumentDelivery/DDEController?Action=showdoc&DocId=Customer+Drawing%7F1734592%7FC%7Fpdf%7FEnglish%7FENG_CD_1734592_C_C_1734592.pdf%7F1-1734592-8; Height: 2.3mm; Mouser Part Number: 571-1-1734592-0; Mouser Price/Stock: https://www.mouser.co.uk/ProductDetail/TE-Connectivity/1-1734592-0?qs=sXy4Dx%2FMQpOH8ogf8%2FvwBg%3D%3D; Arrow Part Number: 1-1734592-0; Arrow Price/Stock: https://www.arrow.com/en/products/1-1734592-0/te-connectivity
footprint FPC-4P(0.5MM)
pins: 1, 2, 3, 4, MP1, MP2

## FPC-5P(0.5MM)
designator J?, comment FPC0.5-5P
Connector; Manufacturer_Name: TE Connectivity; Manufacturer_Part_Number: 1-1734592-0; Datasheet Link: https://www.te.com/commerce/DocumentDelivery/DDEController?Action=showdoc&DocId=Customer+Drawing%7F1734592%7FC%7Fpdf%7FEnglish%7FENG_CD_1734592_C_C_1734592.pdf%7F1-1734592-8; Height: 2.3mm; Mouser Part Number: 571-1-1734592-0; Mouser Price/Stock: https://www.mouser.co.uk/ProductDetail/TE-Connectivity/1-1734592-0?qs=sXy4Dx%2FMQpOH8ogf8%2FvwBg%3D%3D; Arrow Part Number: 1-1734592-0; Arrow Price/Stock: https://www.arrow.com/en/products/1-1734592-0/te-connectivity
footprint FPC-5P(0.5MM)
pins: 1, 2, 3, 4, 5, MP1, MP2

## FPC-6P(0.5MM)
designator J?, comment FPC-6P
Connector; Manufacturer_Name: TE Connectivity; Manufacturer_Part_Number: 1-1734592-0; Datasheet Link: https://www.te.com/commerce/DocumentDelivery/DDEController?Action=showdoc&DocId=Customer+Drawing%7F1734592%7FC%7Fpdf%7FEnglish%7FENG_CD_1734592_C_C_1734592.pdf%7F1-1734592-8; Height: 2.3mm; Mouser Part Number: 571-1-1734592-0; Mouser Price/Stock: https://www.mouser.co.uk/ProductDetail/TE-Connectivity/1-1734592-0?qs=sXy4Dx%2FMQpOH8ogf8%2FvwBg%3D%3D; Arrow Part Number: 1-1734592-0; Arrow Price/Stock: https://www.arrow.com/en/products/1-1734592-0/te-connectivity
footprint FPC-6P(0.5MM)
pins: 1, 2, 3, 4, 5, 6, MP1 0, MP2 0

## FPC-8P(0.5MM)
designator J?, comment FPC-8P
Connector; Manufacturer_Name: TE Connectivity; Manufacturer_Part_Number: 1-1734592-0; Datasheet Link: https://www.te.com/commerce/DocumentDelivery/DDEController?Action=showdoc&DocId=Customer+Drawing%7F1734592%7FC%7Fpdf%7FEnglish%7FENG_CD_1734592_C_C_1734592.pdf%7F1-1734592-8; Height: 2.3mm; Mouser Part Number: 571-1-1734592-0; Mouser Price/Stock: https://www.mouser.co.uk/ProductDetail/TE-Connectivity/1-1734592-0?qs=sXy4Dx%2FMQpOH8ogf8%2FvwBg%3D%3D; Arrow Part Number: 1-1734592-0; Arrow Price/Stock: https://www.arrow.com/en/products/1-1734592-0/te-connectivity
footprint FPC-8P(0.5MM)
pins: 1, 2, 3, 4, 5, 6, 7, 8, MP1 0, MP2 0

## FPC-10P(0.5MM)
designator J?, comment FPC-10P
Connector; Manufacturer_Name: TE Connectivity; Manufacturer_Part_Number: 1-1734592-0; Datasheet Link: https://www.te.com/commerce/DocumentDelivery/DDEController?Action=showdoc&DocId=Customer+Drawing%7F1734592%7FC%7Fpdf%7FEnglish%7FENG_CD_1734592_C_C_1734592.pdf%7F1-1734592-8; Height: 2.3mm; Mouser Part Number: 571-1-1734592-0; Mouser Price/Stock: https://www.mouser.co.uk/ProductDetail/TE-Connectivity/1-1734592-0?qs=sXy4Dx%2FMQpOH8ogf8%2FvwBg%3D%3D; Arrow Part Number: 1-1734592-0; Arrow Price/Stock: https://www.arrow.com/en/products/1-1734592-0/te-connectivity
footprint FPC-10P(0.5MM)
pins: 1, 2, 3, 4, 5, 6, 7, 8, 9, 10, MP1, MP2

## FPC-15P(0.5MM)
designator JP?, comment FPC0.5-15P  (value not drawn)
Connector; BOM名称: FPC连接器; 版权归属: 源创客; 学习资源: www.ooocke.com
footprint FPC-15P(0.5MM)
pins: 1, 2, 3, 4, 5, 6, 7, 8, 9, 10, 11, 12, 13, 14, 15, MP1, MP2

## FPC-15P(1.0MM)
designator JP?, comment FPC1.0-15P  (value not drawn)
Connector; BOM名称: FPC连接器; 版权归属: 源创客; 学习资源: www.ooocke.com
footprint FPC-15P(1.0MM) (翻盖FPC，脚距1mm，不含脚（长19.9mm，宽5.2mm，高1.96mm）)
pins: 1, 2, 3, 4, 5, 6, 7, 8, 9, 10, 11, 12, 13, 14, 15, MP1, MP2

## FPC-16P(0.5MM)
designator JP?, comment FPC0.5-16P  (value not drawn)
Connector; BOM名称: FPC连接器; 版权归属: 源创客; 学习资源: www.ooocke.com
footprint FPC-16P(0.5MM) (长：12.2mm，宽：5.2mm，高：2mm)
pins: 1, 2, 3, 4, 5, 6, 7, 8, 9, 10, 11, 12, 13, 14, 15, 16, MP1, MP2

## FTC252010S4R7MBCA
designator L?, comment 4.7uH
Inductor
footprint L2520 (2.5mm*2.0mm*1.0mm(长*宽*高）)
pins: 1, 2

## FUSB302MPX
designator U?
No Description Available; Mfr_Name: onsemi; Copyright: Copyright (C) 2023 Ultra Librarian. All rights reserved.; Manufacturer_Part_Number: FUSB302MPX; RefDes: RefDes; Type: DEV
footprint MLP14
pins: 1 CC2 (io), 2 VBUS, 3 VDD (power), 4 VDD (power), 5 INT_N, 6 SCL, 7 SDA, 8 GND (power), 9 GND (power), 10 CC1 (io), 11 CC1 (io), 12 VCONN, 13 VCONN, 14 CC2 (io), 15 EPAD

## GH1.25 Connector 2P卧
designator J?
GH1.25 Connector; Manufacturer: JST; No of Positions: 2; Pitch: 1.25mm; Style/Orientation: RightAngleHeader/Plug; Package Reference: SM02B-GHS-TB; Type: WiretoBoard; Datasheet URL: http://www.jst-mfg.com/product/pdf/eng/eGH.pdf; Termination: Crimp; Manufacturer URL: http://www.jst.com/home2.html; Mounting Technology: SurfaceMount; Datasheet Version: 05/2016; Package Description: GH Disconnectable Crimp Style Connector, Pitch 1.25 mm, 1 x 2 Position, Height 4.25 mm
footprint GH1.25卧2P (SMD, 2-Leads, Body 5.75x4.05mm, Pitch 1.25mm)
pins: 1, 2, MP1, MP2

## GH1.25 Connector 2P立
designator J?
GH1.25 Connector; Manufacturer: JST; No of Positions: 2; Pitch: 1.25mm; Style/Orientation: StraightHeader/Plug; Package Reference: BM02B-GHS-TBT; Type: WiretoBoard; Datasheet URL: http://www.jst-mfg.com/product/pdf/eng/eGH.pdf; Termination: Crimp; Manufacturer URL: http://www.jst.com/home2.html; Mounting Technology: SurfaceMount; Datasheet Version: 05/2016; Package Description: GH Disconnectable Crimp Style Connector, Pitch 1.25 mm, 1 x 2 Position, Height 4.05 mm
footprint GH1.25立2P (Connector, 2-Leads, Body 5.75x4.25mm, Pitch 1.25mm)
pins: 1, 2, MP1, MP2

## GH1.25 Connector 3P卧
designator J?
GH1.25 Connector; Manufacturer: JST; No of Positions: 3; Pitch: 1.25mm; Style/Orientation: RightAngleHeader/Plug; Package Reference: SM03B-GHS-TB; Type: WiretoBoard; Datasheet URL: http://www.jst-mfg.com/product/pdf/eng/eGH.pdf; Termination: Crimp; Manufacturer URL: http://www.jst.com/home2.html; Mounting Technology: SurfaceMount; Datasheet Version: 05/2016; Package Description: GH Disconnectable Crimp Style Connector, Pitch 1.25 mm, 1 x 3 Position, Height 4.25 mm
footprint GH1.25卧3P (SMD, 3-Leads, Body 7.00x4.05mm, Pitch 1.25mm)
pins: 1, 2, 3, MP1, MP2

## GH1.25 Connector 3P立
designator J?
GH1.25 Connector; Manufacturer: JST; No of Positions: 3; Pitch: 1.25mm; Style/Orientation: StraightHeader/Plug; Package Reference: BM03B-GHS-TBT; Type: WiretoBoard; Datasheet URL: http://www.jst-mfg.com/product/pdf/eng/eGH.pdf; Termination: Crimp; Manufacturer URL: http://www.jst.com/home2.html; Mounting Technology: SurfaceMount; Datasheet Version: 05/2016; Package Description: GH Disconnectable Crimp Style Connector, Pitch 1.25 mm, 1 x 3 Position, Height 4.05 mm
footprint GH1.25立3P (Connector, 3-Leads, Body 7.00x4.25mm, Pitch 1.25mm)
pins: 1, 2, 3, MP1, MP2

## GH1.25 Connector 4P卧
designator J?
GH1.25 Connector; Manufacturer: JST; No of Positions: 4; Pitch: 1.25mm; Style/Orientation: RightAngleHeader/Plug; Package Reference: SM04B-GHS-TB; Type: WiretoBoard; Datasheet URL: http://www.jst-mfg.com/product/pdf/eng/eGH.pdf; Termination: Crimp; Manufacturer URL: http://www.jst.com/home2.html; Mounting Technology: SurfaceMount; Datasheet Version: 05/2016; Package Description: GH Disconnectable Crimp Style Connector, Pitch 1.25 mm, 1 x 4 Position, Height 4.25 mm
footprint GH1.25卧4P (SMD, 4-Leads, Body 8.25x4.05mm, Pitch 1.25mm)
pins: 1, 2, 3, 4, MP1, MP2

## GH1.25 Connector 4P立
designator J?
GH1.25 Connector; Manufacturer: JST; No of Positions: 4; Pitch: 1.25mm; Style/Orientation: StraightHeader/Plug; Package Reference: BM04B-GHS-TBT; Type: WiretoBoard; Datasheet URL: http://www.jst-mfg.com/product/pdf/eng/eGH.pdf; Termination: Crimp; Manufacturer URL: http://www.jst.com/home2.html; Mounting Technology: SurfaceMount; Datasheet Version: 05/2016; Package Description: GH Disconnectable Crimp Style Connector, Pitch 1.25 mm, 1 x 4 Position, Height 4.05 mm
footprint GH1.25立4P (Connector, 4-Leads, Body 8.25x4.25mm, Pitch 1.25mm)
pins: 1, 2, 3, 4, MP1, MP2

## GH1.25 Connector 5P卧
designator J?
GH1.25 Connector; Manufacturer: JST; No of Positions: 5; Pitch: 1.25mm; Style/Orientation: RightAngleHeader/Plug; Package Reference: SM05B-GHS-TB; Type: WiretoBoard; Datasheet URL: http://www.jst-mfg.com/product/pdf/eng/eGH.pdf; Termination: Crimp; Manufacturer URL: http://www.jst.com/home2.html; Mounting Technology: SurfaceMount; Datasheet Version: 05/2016; Package Description: GH Disconnectable Crimp Style Connector, Pitch 1.25 mm, 1 x 5 Position, Height 4.25 mm
footprint GH1.25卧5P (SMD, 5-Leads, Body 9.50x4.05mm, Pitch 1.25mm)
pins: 1, 2, 3, 4, 5, MP1, MP2

## GH1.25 Connector 5P立
designator J?
GH1.25 Connector; Manufacturer: JST; No of Positions: 5; Pitch: 1.25mm; Style/Orientation: StraightHeader/Plug; Package Reference: BM05B-GHS-TBT; Type: WiretoBoard; Datasheet URL: http://www.jst-mfg.com/product/pdf/eng/eGH.pdf; Termination: Crimp; Manufacturer URL: http://www.jst.com/home2.html; Mounting Technology: SurfaceMount; Datasheet Version: 05/2016; Package Description: GH Disconnectable Crimp Style Connector, Pitch 1.25 mm, 1 x 5 Position, Height 4.05 mm
footprint GH1.25立5P (Connector, 5-Leads, Body 9.5x4.25mm, Pitch 1.25mm)
pins: 1, 2, 3, 4, 5, MP1, MP2

## GH1.25 Connector 6P卧
designator J?
GH1.25 Connector; Manufacturer: JST; No of Positions: 6; Pitch: 1.25mm; Style/Orientation: RightAngleHeader/Plug; Package Reference: SM06B-GHS-TB; Type: WiretoBoard; Datasheet URL: http://www.jst-mfg.com/product/pdf/eng/eGH.pdf; Termination: Crimp; Manufacturer URL: http://www.jst.com/home2.html; Mounting Technology: SurfaceMount; Datasheet Version: 05/2016; Package Description: GH Disconnectable Crimp Style Connector, Pitch 1.25 mm, 1 x 6 Position, Height 4.25 mm
footprint GH1.25卧6P (SMD, 6-Leads, Body 10.75x4.05mm, Pitch 1.25mm)
pins: 1, 2, 3, 4, 5, 6, MP1, MP2

## GH1.25 Connector 6P立
designator J?
GH1.25 Connector; Manufacturer: JST; No of Positions: 6; Pitch: 1.25mm; Style/Orientation: StraightHeader/Plug; Package Reference: BM06B-GHS-TBT; Type: WiretoBoard; Datasheet URL: http://www.jst-mfg.com/product/pdf/eng/eGH.pdf; Termination: Crimp; Manufacturer URL: http://www.jst.com/home2.html; Mounting Technology: SurfaceMount; Datasheet Version: 05/2016; Package Description: GH Disconnectable Crimp Style Connector, Pitch 1.25 mm, 1 x 6 Position, Height 4.05 mm
footprint GH1.25立6P (Connector, 6-Leads, Body 10.75x4.25mm, Pitch 1.25mm)
pins: 1, 2, 3, 4, 5, 6, MP1, MP2

## GH1.25 Connector 7P卧
designator J?
GH1.25 Connector; Manufacturer: JST; No of Positions: 7; Pitch: 1.25mm; Style/Orientation: RightAngleHeader/Plug; Package Reference: SM07B-GHS-TB; Type: WiretoBoard; Datasheet URL: http://www.jst-mfg.com/product/pdf/eng/eGH.pdf; Termination: Crimp; Manufacturer URL: http://www.jst.com/home2.html; Mounting Technology: SurfaceMount; Datasheet Version: 05/2016; Package Description: GH Disconnectable Crimp Style Connector, Pitch 1.25 mm, 1 x 7 Position, Height 4.25 mm
footprint GH1.25卧7P (SMD, 7-Leads, Body 12.00x4.05mm, Pitch 1.25mm)
pins: 1, 2, 3, 4, 5, 6, 7, MP1, MP2

## GH1.25 Connector 7P立
designator J?
GH1.25 Connector; Manufacturer: JST; No of Positions: 7; Pitch: 1.25mm; Style/Orientation: StraightHeader/Plug; Package Reference: BM07B-GHS-TBT; Type: WiretoBoard; Datasheet URL: http://www.jst-mfg.com/product/pdf/eng/eGH.pdf; Termination: Crimp; Manufacturer URL: http://www.jst.com/home2.html; Mounting Technology: SurfaceMount; Datasheet Version: 05/2016; Package Description: GH Disconnectable Crimp Style Connector, Pitch 1.25 mm, 1 x 7 Position, Height 4.05 mm
footprint GH1.25立7P (Connector, 7-Leads, Body 12.00x4.25mm, Pitch 1.25mm)
pins: 1, 2, 3, 4, 5, 6, 7, MP1, MP2

## GH1.25 Connector 8P卧
designator J?
GH1.25 Connector; Manufacturer: JST; No of Positions: 8; Pitch: 1.25mm; Style/Orientation: RightAngleHeader/Plug; Package Reference: SM08B-GHS-TB; Type: WiretoBoard; Datasheet URL: http://www.jst-mfg.com/product/pdf/eng/eGH.pdf; Termination: Crimp; Manufacturer URL: http://www.jst.com/home2.html; Mounting Technology: SurfaceMount; Datasheet Version: 05/2016; Package Description: GH Disconnectable Crimp Style Connector, Pitch 1.25 mm, 1 x 8 Position, Height 4.25 mm
footprint GH1.25卧8P (SMD, 8-Leads, Body 13.25x4.05mm, Pitch 1.25mm)
pins: 1, 2, 3, 4, 5, 6, 7, 8, MP1, MP2

## GH1.25 Connector 8P立
designator J?
GH1.25 Connector; Manufacturer: JST; No of Positions: 8; Pitch: 1.25mm; Style/Orientation: StraightHeader/Plug; Package Reference: BM08B-GHS-TBT; Type: WiretoBoard; Datasheet URL: http://www.jst-mfg.com/product/pdf/eng/eGH.pdf; Termination: Crimp; Manufacturer URL: http://www.jst.com/home2.html; Mounting Technology: SurfaceMount; Datasheet Version: 05/2016; Package Description: GH Disconnectable Crimp Style Connector, Pitch 1.25 mm, 1 x 8 Position, Height 4.05 mm
footprint GH1.25立8P (Connector, 8-Leads, Body 13.25x4.25mm, Pitch 1.25mm)
pins: 1, 2, 3, 4, 5, 6, 7, 8, MP1, MP2

## GH1.25 Connector 9P卧
designator J?
GH1.25 Connector; Manufacturer: JST; No of Positions: 9; Pitch: 1.25mm; Style/Orientation: RightAngleHeader/Plug; Package Reference: SM09B-GHS-TB; Type: WiretoBoard; Datasheet URL: http://www.jst-mfg.com/product/pdf/eng/eGH.pdf; Termination: Crimp; Manufacturer URL: http://www.jst.com/home2.html; Mounting Technology: SurfaceMount; Datasheet Version: 05/2016; Package Description: GH Disconnectable Crimp Style Connector, Pitch 1.25 mm, 1 x 9 Position, Height 4.25 mm
footprint GH1.25卧9P (SMD, 9-Leads, Body 14.50x4.05mm, Pitch 1.25mm)
pins: 1, 2, 3, 4, 5, 6, 7, 8, 9, MP1, MP2

## GH1.25 Connector 9P立
designator J?
GH1.25 Connector; Manufacturer: JST; No of Positions: 9; Pitch: 1.25mm; Style/Orientation: StraightHeader/Plug; Package Reference: BM09B-GHS-TBT; Type: WiretoBoard; Datasheet URL: http://www.jst-mfg.com/product/pdf/eng/eGH.pdf; Termination: Crimp; Manufacturer URL: http://www.jst.com/home2.html; Mounting Technology: SurfaceMount; Datasheet Version: 05/2016; Package Description: GH Disconnectable Crimp Style Connector, Pitch 1.25 mm, 1 x 9 Position, Height 4.05 mm
footprint GH1.25立9P (Connector, 9-Leads, Body  14.50x4.25mm, Pitch 1.25mm)
pins: 1, 2, 3, 4, 5, 6, 7, 8, 9, MP1, MP2

## GH1.25 Connector 10P卧
designator J?
GH1.25 Connector; Manufacturer: JST; No of Positions: 10; Pitch: 1.25mm; Style/Orientation: RightAngleHeader/Plug; Package Reference: SM10B-GHS-TB; Type: WiretoBoard; Datasheet URL: http://www.jst-mfg.com/product/pdf/eng/eGH.pdf; Termination: Crimp; Manufacturer URL: http://www.jst.com/home2.html; Mounting Technology: SurfaceMount; Datasheet Version: 05/2016; Package Description: GH Disconnectable Crimp Style Connector, Pitch 1.25 mm, 1 x 10 Position, Height 4.25 mm
footprint GH1.25卧10P (SMD, 10-Leads, Body 15.75x4.05mm, Pitch 1.25mm)
pins: 1, 2, 3, 4, 5, 6, 7, 8, 9, 10, MP1, MP2

## GH1.25 Connector 10P立
designator J?
GH1.25 Connector; Manufacturer: JST; No of Positions: 10; Pitch: 1.25mm; Style/Orientation: StraightHeader/Plug; Package Reference: BM10B-GHS-TBT; Type: WiretoBoard; Datasheet URL: http://www.jst-mfg.com/product/pdf/eng/eGH.pdf; Termination: Crimp; Manufacturer URL: http://www.jst.com/home2.html; Mounting Technology: SurfaceMount; Datasheet Version: 05/2016; Package Description: GH Disconnectable Crimp Style Connector, Pitch 1.25 mm, 1 x 10 Position, Height 4.05 mm
footprint GH1.25立10P (Connector, 10-Leads, Body  15.75x4.25mm, Pitch 1.25mm)
pins: 1, 2, 3, 4, 5, 6, 7, 8, 9, 10, MP1, MP2

## GH1.25 Connector 11P卧
designator J?
GH1.25 Connector; Manufacturer: JST; No of Positions: 11; Pitch: 1.25mm; Style/Orientation: RightAngleHeader/Plug; Package Reference: SM11B-GHS-TB; Type: WiretoBoard; Datasheet URL: http://www.jst-mfg.com/product/pdf/eng/eGH.pdf; Termination: Crimp; Manufacturer URL: http://www.jst.com/home2.html; Mounting Technology: SurfaceMount; Datasheet Version: 05/2016; Package Description: GH Disconnectable Crimp Style Connector, Pitch 1.25 mm, 1 x 11 Position, Height 4.25 mm
footprint GH1.25卧11P (SMD, 11-Leads, Body 17.00x4.05mm, Pitch 1.25mm)
pins: 1, 2, 3, 4, 5, 6, 7, 8, 9, 10, 11, MP1, MP2

## GH1.25 Connector 11P立
designator J?
GH1.25 Connector; Manufacturer: JST; No of Positions: 11; Pitch: 1.25mm; Style/Orientation: StraightHeader/Plug; Package Reference: BM11B-GHS-TBT; Type: WiretoBoard; Datasheet URL: http://www.jst-mfg.com/product/pdf/eng/eGH.pdf; Termination: Crimp; Manufacturer URL: http://www.jst.com/home2.html; Mounting Technology: SurfaceMount; Datasheet Version: 05/2016; Package Description: GH Disconnectable Crimp Style Connector, Pitch 1.25 mm, 1 x 11 Position, Height 4.05 mm
footprint GH1.25立11P (Connector, 11-Leads, Body  17.00x4.25mm, Pitch 1.25mm)
pins: 1, 2, 3, 4, 5, 6, 7, 8, 9, 10, 11, MP1, MP2

## GH1.25 Connector 12P卧
designator J?
GH1.25 Connector; Manufacturer: JST; No of Positions: 12; Pitch: 1.25mm; Style/Orientation: RightAngleHeader/Plug; Package Reference: SM12B-GHS-TB; Type: WiretoBoard; Datasheet URL: http://www.jst-mfg.com/product/pdf/eng/eGH.pdf; Termination: Crimp; Manufacturer URL: http://www.jst.com/home2.html; Mounting Technology: SurfaceMount; Datasheet Version: 05/2016; Package Description: GH Disconnectable Crimp Style Connector, Pitch 1.25 mm, 1 x 12 Position, Height 4.25 mm
footprint GH1.25卧12P (SMD, 12-Leads, Body 18.25x4.05mm, Pitch 1.25mm)
pins: 1, 2, 3, 4, 5, 6, 7, 8, 9, 10, 11, 12, MP1, MP2

## GH1.25 Connector 12P立
designator J?
GH1.25 Connector; Manufacturer: JST; No of Positions: 12; Pitch: 1.25mm; Style/Orientation: StraightHeader/Plug; Package Reference: BM12B-GHS-TBT; Type: WiretoBoard; Datasheet URL: http://www.jst-mfg.com/product/pdf/eng/eGH.pdf; Termination: Crimp; Manufacturer URL: http://www.jst.com/home2.html; Mounting Technology: SurfaceMount; Datasheet Version: 05/2016; Package Description: GH Disconnectable Crimp Style Connector, Pitch 1.25 mm, 1 x 12 Position, Height 4.05 mm
footprint GH1.25立12P (Connector, 12-Leads, Body  18.25x4.25mm, Pitch 1.25mm)
pins: 1, 2, 3, 4, 5, 6, 7, 8, 9, 10, 11, 12, MP1, MP2

## GH1.25 Connector 13P卧
designator J?
GH1.25 Connector; Manufacturer: JST; No of Positions: 13; Pitch: 1.25mm; Style/Orientation: RightAngleHeader/Plug; Package Reference: SM13B-GHS-TB; Type: WiretoBoard; Datasheet URL: http://www.jst-mfg.com/product/pdf/eng/eGH.pdf; Termination: Crimp; Manufacturer URL: http://www.jst.com/home2.html; Mounting Technology: SurfaceMount; Datasheet Version: 05/2016; Package Description: GH Disconnectable Crimp Style Connector, Pitch 1.25 mm, 1 x 13 Position, Height 4.25 mm
footprint GH1.25卧13P (SMD, 13-Leads, Body 19.50x4.05mm, Pitch 1.25mm)
pins: 1, 2, 3, 4, 5, 6, 7, 8, 9, 10, 11, 12, 13, MP1, MP2

## GH1.25 Connector 13P立
designator J?
GH1.25 Connector; Manufacturer: JST; No of Positions: 13; Pitch: 1.25mm; Style/Orientation: StraightHeader/Plug; Package Reference: BM13B-GHS-TBT; Type: WiretoBoard; Datasheet URL: http://www.jst-mfg.com/product/pdf/eng/eGH.pdf; Termination: Crimp; Manufacturer URL: http://www.jst.com/home2.html; Mounting Technology: SurfaceMount; Datasheet Version: 05/2016; Package Description: GH Disconnectable Crimp Style Connector, Pitch 1.25 mm, 1 x 13 Position, Height 4.05 mm
footprint JST-BM13B-GHS-TBT_V (Connector, 13-Leads, Body  19.50x4.25mm, Pitch 1.25mm)
pins: 1, 2, 3, 4, 5, 6, 7, 8, 9, 10, 11, 12, 13, MP1, MP2

## GH1.25 Connector 14P卧
designator J?
GH1.25 Connector; Manufacturer: JST; No of Positions: 14; Pitch: 1.25mm; Style/Orientation: RightAngleHeader/Plug; Package Reference: SM14B-GHS-TB; Type: WiretoBoard; Datasheet URL: http://www.jst-mfg.com/product/pdf/eng/eGH.pdf; Termination: Crimp; Manufacturer URL: http://www.jst.com/home2.html; Mounting Technology: SurfaceMount; Datasheet Version: 05/2016; Package Description: GH Disconnectable Crimp Style Connector, Pitch 1.25 mm, 1 x 14 Position, Height 4.25 mm
footprint GH1.25卧14P (SMD, 14-Leads, Body 20.75x4.05mm, Pitch 1.25mm)
pins: 1, 2, 3, 4, 5, 6, 7, 8, 9, 10, 11, 12, 13, 14, MP1, MP2

## GH1.25 Connector 14P立
designator J?
GH1.25 Connector; Manufacturer: JST; No of Positions: 14; Pitch: 1.25mm; Style/Orientation: StraightHeader/Plug; Package Reference: BM14B-GHS-TBT; Type: WiretoBoard; Datasheet URL: http://www.jst-mfg.com/product/pdf/eng/eGH.pdf; Termination: Crimp; Manufacturer URL: http://www.jst.com/home2.html; Mounting Technology: SurfaceMount; Datasheet Version: 05/2016; Package Description: GH Disconnectable Crimp Style Connector, Pitch 1.25 mm, 1 x 14 Position, Height 4.05 mm
footprint GH1.25立14P (Connector, 14-Leads, Body  20.75x4.25mm, Pitch 1.25mm)
pins: 1, 2, 3, 4, 5, 6, 7, 8, 9, 10, 11, 12, 13, 14, MP1, MP2

## GH1.25 Connector 15P卧
designator J?
GH1.25 Connector; Manufacturer: JST; No of Positions: 15; Pitch: 1.25mm; Style/Orientation: RightAngleHeader/Plug; Package Reference: SM15B-GHS-TB; Type: WiretoBoard; Datasheet URL: http://www.jst-mfg.com/product/pdf/eng/eGH.pdf; Termination: Crimp; Manufacturer URL: http://www.jst.com/home2.html; Mounting Technology: SurfaceMount; Datasheet Version: 05/2016; Package Description: GH Disconnectable Crimp Style Connector, Pitch 1.25 mm, 1 x 15 Position, Height 4.25 mm
footprint GH1.25卧15P (SMD, 15-Leads, Body 22.00x4.05mm, Pitch 1.25mm)
pins: 1, 2, 3, 4, 5, 6, 7, 8, 9, 10, 11, 12, 13, 14, 15, MP1, MP2

## Header1.27 2X3 反弯排母
designator J?
Header
footprint Header1.27 2X3 反弯排母 (1.27mm)
pins: 1, 2, 3, 4, 5, 6

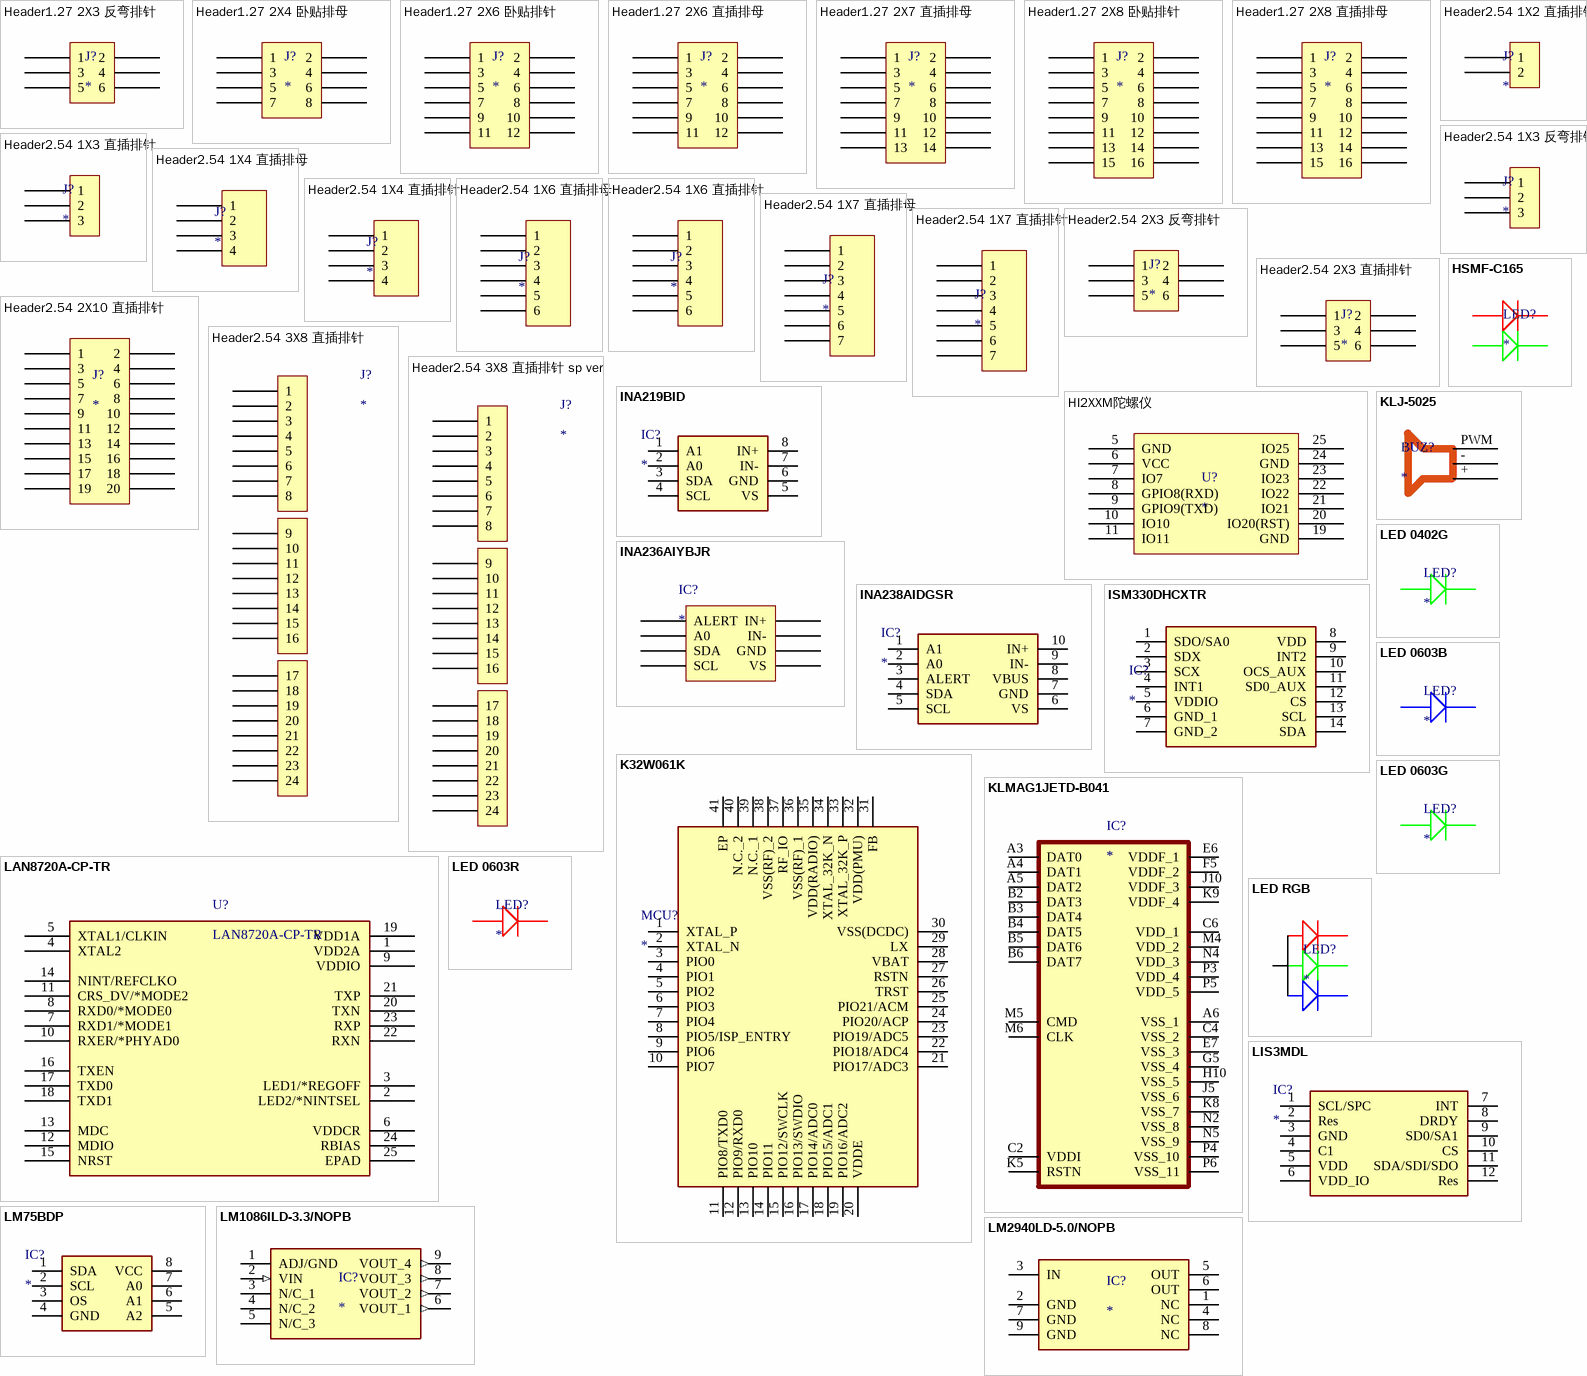
[diagram p3: symbols Header1.27 2X3 反弯排针 to LM2940LD-5.0/NOPB]

## Header1.27 2X3 反弯排针
designator J?
Header
footprint Header1.27 2X3 反弯排针
pins: 1, 2, 3, 4, 5, 6

## Header1.27 2X4 卧贴排母
designator J?
Header
footprint HEADER1.27 2X4 卧贴排母 (双排贴片排母，脚距：1.27mm)
pins: 1, 2, 3, 4, 5, 6, 7, 8

## Header1.27 2X6 卧贴排针
designator J?
Header
footprint Header1.27 2X6 卧贴排针 (双排贴片排针，脚距：1.27mm)
pins: 1, 2, 3, 4, 5, 6, 7, 8, 9, 10, 11, 12

## Header1.27 2X6 直插排母
designator J?
Header
footprint Header1.27 2X6 直插排母
pins: 1, 2, 3, 4, 5, 6, 7, 8, 9, 10, 11, 12

## Header1.27 2X7 直插排母
designator J?
Header
footprint Header1.27 2X7 直插排母
pins: 1, 2, 3, 4, 5, 6, 7, 8, 9, 10, 11, 12, 13, 14

## Header1.27 2X8 卧贴排针
designator J?
Header
footprint Header1.27 2X8 卧贴排针
pins: 1, 2, 3, 4, 5, 6, 7, 8, 9, 10, 11, 12, 13, 14, 15, 16

## Header1.27 2X8 直插排母
designator J?
Header
footprint Header1.27 2X8 直插排母
pins: 1, 2, 3, 4, 5, 6, 7, 8, 9, 10, 11, 12, 13, 14, 15, 16

## Header2.54 1X2 直插排针
designator J?
Header
footprint Header2.54 2X1 直插排针 (排针，2脚)
pins: 1, 2

## Header2.54 1X3 反弯排针
designator J?
Header
footprint Header2.54 1X3 反弯排针
pins: 1, 2, 3

## Header2.54 1X3 直插排针
designator J?
Header
footprint Header2.54 1X3 直插排针
pins: 1, 2, 3

## Header2.54 1X4 直插排母
designator J?
Header
footprint Header2.54 1X4 直插排母 (排母，4脚)
pins: 1, 2, 3, 4

## Header2.54 1X4 直插排针
designator J?
Header
footprint Header2.54 1X4 直插排针
pins: 1, 2, 3, 4

## Header2.54 1X6 直插排母
designator J?
Header
footprint Header2.54 1X6 直插排母
pins: 1, 2, 3, 4, 5, 6

## Header2.54 1X6 直插排针
designator J?
Header
footprint Header2.54 1X6 直插排针
pins: 1, 2, 3, 4, 5, 6

## Header2.54 1X7 直插排母
designator J?
Header
footprint Header2.54 1X7 直插排母 - duplicate (排母，7脚)
pins: 1, 2, 3, 4, 5, 6, 7

## Header2.54 1X7 直插排针
designator J?
Header
footprint Header2.54 1X7 直插排针 (排针，8脚)
pins: 1, 2, 3, 4, 5, 6, 7

## Header2.54 2X3 反弯排针
designator J?
Header
footprint Header2.54 2X3 反弯排针
pins: 1, 2, 3, 4, 5, 6

## Header2.54 2X3 直插排针
designator J?
Header
footprint Header2.54 2X3 直插排针 - duplicate
pins: 1, 2, 3, 4, 5, 6

## Header2.54 2X10 直插排针
designator J?
Header
footprint Header2.54 2X10 直插排针 (双排排针，10x2脚)
pins: 1, 2, 3, 4, 5, 6, 7, 8, 9, 10, 11, 12, 13, 14, 15, 16, 17, 18, 19, 20

## Header2.54 3X8 直插排针
designator J?
Header
footprint Header2.54 3X8 直插排针
pins: 1, 2, 3, 4, 5, 6, 7, 8, 9, 10, 11, 12, 13, 14, 15, 16, 17, 18, 19, 20, 21, 22, 23, 24

## Header2.54 3X8 直插排针 sp ver
designator J?
Header
footprint Header2.54 3X8 直插排针 sp ver
pins: 1, 2, 3, 4, 5, 6, 7, 8, 9, 10, 11, 12, 13, 14, 15, 16, 17, 18, 19, 20, 21, 22, 23, 24